# EAGLE library part DS1629 (library MAX9812)
Dallas-Maxim's DS1629 2-Wire Digital Thermometer and Real Time Clock Description: The DS1629 2-Wire Digital Thermometer and Real Time Clock integrates the critical functions of a real time clock and a temperature monitor in a small outline 8-pin SOIC package. Communication to the DS1629 is accomplished via a 2-wire interface. The wide power supply range and minimal power requirement of the DS1629 allow for accurate time/temperature measurements in battery-powered applications. The digital thermometer provides 9-bit temperature readings which indicate the temperature of the device. No additional components are required; the device is truly a "temperature-to-digital" converter. The clock/calendar provides seconds, minutes, hours, day, date of the month, day of the week, month, and year. The end of the month date is automatically adjusted for months with less than 31 days, including corrections for leap years. It operates in either a 12- or 24-hour format with AM/PM indicator in 12-hour mode. The crystal oscillator frequency is internally divided, as specified by device configuration. An open-drain output is provided that can be used as the oscillator input for a microcontroller. The open-drain alarm output of the DS1629 will become active when either the measured temperature exceeds the programmed over-temperature limit (TH) or current time reaches the programmed alarm setting. The user can configure which event (time only, temperature only, either, or neither) will generate an alarm condition. For storage of general system data or time/temperature datalogging, the DS1629 features 32 bytes of SRAM. Applications for the DS1629 include personal computers/ PDAs, cellular telephones, office equipment, thermal dataloggers, or any microprocessor-based, thermally-sensitive system. Features: Measures temperatures from -55°C to +125°C; Fahrenheit equivalent is -67°F to 257°F Real time clock counts seconds, minutes, hours, date of the month, month, day of the week, and year with leap year compensation through the year 2100 Thermometer accuracy is ±2.0°C (typ) Thermometer resolution is 9 bits (expandable) Thermostatic and time alarm settings are user definable. Dedicated open-drain Alarm output 32 bytes SRAM for general data storage Data is read from/written to via a 2-wire serial interface. (open drain I/O lines) Wide power supply range (2.2V - 5.5V) 8-pin 150mil SOIC package Applications : PDAs cellular telephones office equipment dataloggers any thermally sensitive system Please send any comments to: messi@users.sourceforge.net
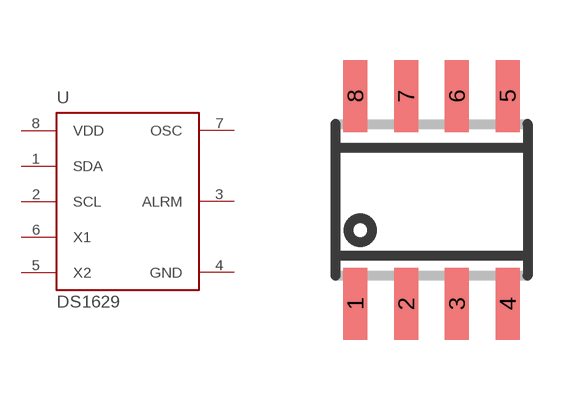
[diagram p130: symbol with the pads of SOIC8; footprint SOIC8]

Designator prefix U

## DS1629  [SOIC8]
1  SDA
2  SCL  in
3  ALRM  out
4  GND  pwr
5  X2  in
6  X1  in
7  OSC  out
8  VDD  pwr

## Footprint SOIC8 (pad centres in mm)
Small Outline IC
smd 0.6 x 1.8: 1 -1.905,-2.6; 2 -0.635,-2.6; 3 0.635,-2.6; 4 1.905,-2.6; 5 1.905,2.6; 6 0.635,2.6; 7 -0.635,2.6; 8 -1.905,2.6